# Altium footprint library Generic USB old_bkup_compare_mini_usb.PcbLib: 2 footprints
Each footprint in its own frame and in the unit in brackets; x right, y up, seen from the top. Pads: shape width x height; smd on the part's side, far side on the other; paste and mask are expansions set on the pad; w line width, h text height; cw(c..) or ccw(c..) is an arc to the next point about the centre after c.
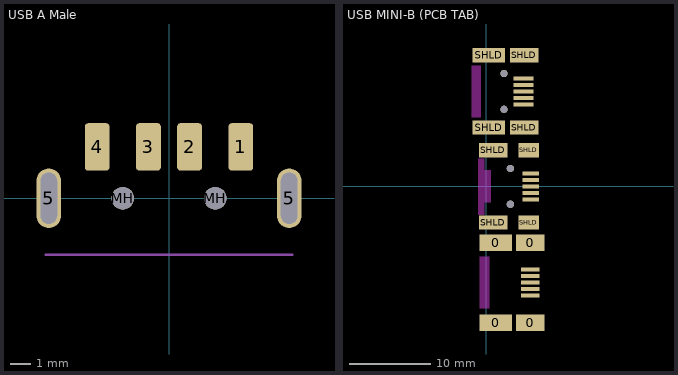
[diagram p0: the footprints below, top view; thin cyan lines are the x and y axes]

## USB A Male [mm] "Fits Molex & 4UCON 19465   USB A TYPE DENT TYPE SMT 90° MALE METAL WITHOUT KINK BLACK INSULATOR METAL SHELL"
height 4.6
pads (8):
  rrect25% 1.2x2.3 smd: 1(3.5,2.5) 2(1,2.5) 3(-1,2.5) 4(-3.5,2.5)
  rrect99% 1.2x2.9 hole 0.8 slot 2.5 at 90 deg: 5(-5.85,0) 5(5.85,0)
  round 1.1 hole 1.1 unplated: MH(-2.25,0) MH(2.25,0)
Mechanical 1:
  lines w0.102: -6,-2.75 6,-2.75
3D body: height 3.05, standoff -1.75, extent -6,-17.8 6,3

## USB MINI-B (PCB TAB) [mm] "USB Mini B with PCB TAB (Fits Kobiconn, Tyco, Molex)"
height 3.95
pads (31):
  rect 4x2.05 smd: 0(1.2,-16.775) 0(1.2,-6.925)
  rect 3.5x2.05 smd: 0(5.45,-16.775) 0(5.45,-6.925)
  rect 2.5x0.5 smd paste-0.05 mask+0.076: D+(4.611,11.676) D-(4.611,12.476) GND(4.611,10.076) ID(4.611,10.876) VBUS(4.611,13.276)
  rect 2.25x0.5 smd: D+(5.425,-11.85) D-(5.425,-11.05) GND(5.425,-13.45) ID(5.425,-12.65) VBUS(5.425,-10.25)
  rect 2x0.5 smd paste-0.075 mask+0.05: D+(5.5,0) D-(5.5,0.8) GND(5.5,-1.6) ID(5.5,-0.8) VBUS(5.5,1.6)
  round 0.9 hole 0.9 unplated mask+0.025: MH(2.211,9.476) MH(2.211,13.876) MH(3,-2.2) MH(3,2.2)
  rect 4x1.75 smd mask+0.076: SHLD(0.311,7.226) SHLD(0.311,16.126)
  rect 3.5x1.75 smd paste-0.075 mask+0.076: SHLD(0.9,-4.45) SHLD(0.9,4.45)
  rect 3.5x1.75 smd mask+0.076: SHLD(4.711,7.226) SHLD(4.711,16.126)
  rect 2.5x1.75 smd paste-0.075 mask+0.076: SHLD(5.25,-4.45) SHLD(5.25,4.45)
Top Layer keep-out:
  rectangle: -1,-2 0.6,2
  rectangle: -1,-3.5 -0.2,3.4
Keep-Out Layer:
  rectangle: -0.8,-15.05 0.4,-8.65
  rectangle: -1.789,8.476 -0.589,14.876
3D body: height 4.05, standoff 0, extent -2.775,-16.8 6.225,-6.9
3D body: height 3.93, standoff -1.01, extent -2.8,-4.95 6.2,4.95
3D body: height 3.93, standoff -1.01, extent -3.689,6.726 5.311,16.626